# Altium footprint library PcbLib1.PcbLib: 2 footprints
Each footprint in its own frame and in the unit in brackets; x right, y up, seen from the top. Pads: shape width x height; smd on the part's side, far side on the other; paste and mask are expansions set on the pad; w line width, h text height; cw(c..) or ccw(c..) is an arc to the next point about the centre after c.
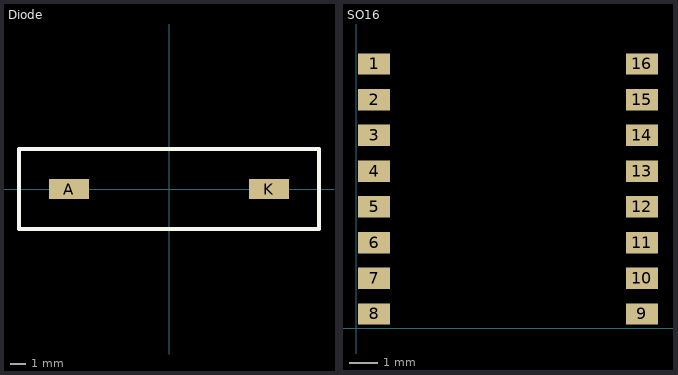
[diagram p0: the footprints below, top view; thin cyan lines are the x and y axes]

## Diode [mil]
pads (2):
  rect 100x50 smd: A(-250,0) K(250,0)
Top Overlay:
  lines w10: -375,-100 -375,0 -375,100 375,100 375,-100 -375,-100

## SO16 [mil]
pads (16):
  rect 45x30 smd: 1(25,370) 2(25,320) 3(25,270) 4(25,220) 5(25,170) 6(25,120) 7(25,70) 8(25,20) 9(400,20) 10(400,70) 11(400,120) 12(400,170) 13(400,220) 14(400,270) 15(400,320) 16(400,370)